# Altium schematic symbol library RF_Filter.SchLib: 200 symbols (part 2 of 2)
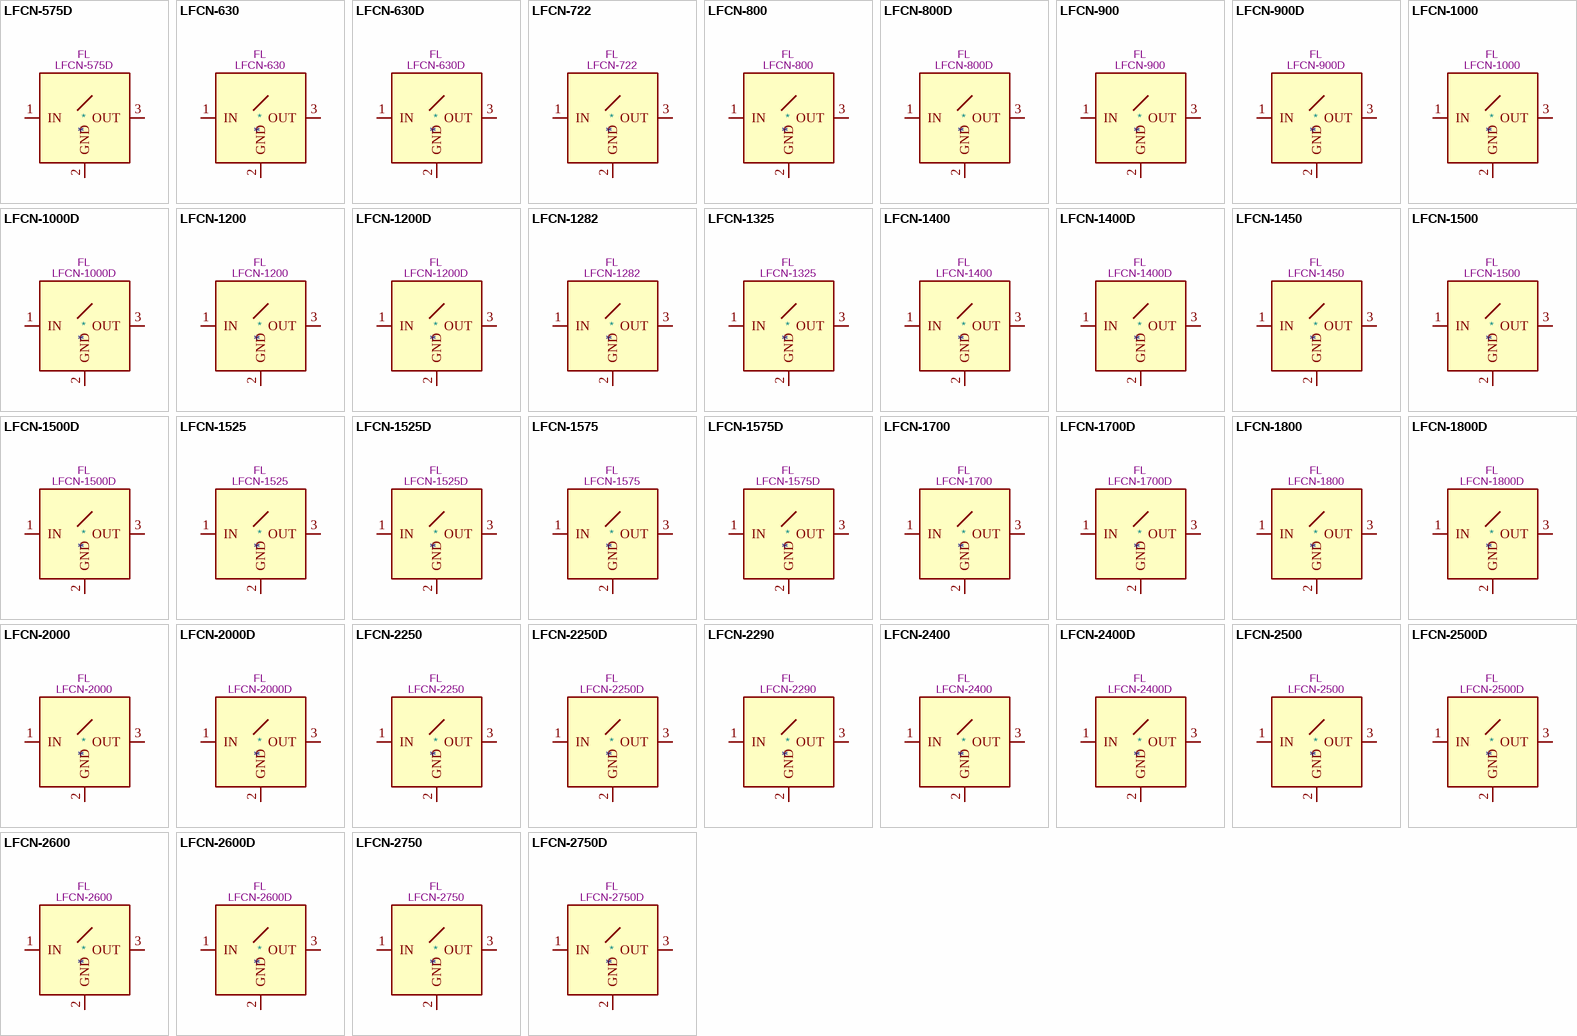
[diagram p5: symbols LFCN-575D to LFCN-2750D]

## LFCN-1325
designator *  value LFCN-1325  Reference: FL
ki_keywords: Mini-Circuits low pass filter; ki_description: 1325MHz 50 Ohm Passive Low Pass Filter, FV1206; ki_fp_filters: Filter*Mini?Circuits*FV1206*; Footprint: Filter:Filter_Mini-Circuits_FV1206; Datasheet: https://www.minicircuits.com/pdfs/LFCN-1325+.pdf
pins: 1 IN, 2 GND, 3 OUT, 4 GND hidden

## LFCN-1400
designator *  value LFCN-1400  Reference: FL
ki_keywords: Mini-Circuits low pass filter; ki_description: 1400MHz 50 Ohm Passive Low Pass Filter, FV1206; ki_fp_filters: Filter*Mini?Circuits*FV1206*; Footprint: Filter:Filter_Mini-Circuits_FV1206; Datasheet: https://www.minicircuits.com/pdfs/LFCN-1400+.pdf
pins: 1 IN, 2 GND, 3 OUT, 4 GND hidden

## LFCN-1400D
designator *  value LFCN-1400D  Reference: FL
ki_keywords: Mini-Circuits low pass filter; ki_description: 1400MHz 50 Ohm Passive Low Pass Filter, DC capable, FV1206; ki_fp_filters: Filter*Mini?Circuits*FV1206*; Footprint: Filter:Filter_Mini-Circuits_FV1206; Datasheet: https://www.minicircuits.com/pdfs/LFCN-1400D+.pdf
pins: 1 IN, 2 GND, 3 OUT, 4 GND hidden

## LFCN-1450
designator *  value LFCN-1450  Reference: FL
ki_keywords: Mini-Circuits low pass filter; ki_description: 1450MHz 50 Ohm Passive Low Pass Filter, FV1206; ki_fp_filters: Filter*Mini?Circuits*FV1206*; Footprint: Filter:Filter_Mini-Circuits_FV1206; Datasheet: https://www.minicircuits.com/pdfs/LFCN-1450+.pdf
pins: 1 IN, 2 GND, 3 OUT, 4 GND hidden

## LFCN-1500
designator *  value LFCN-1500  Reference: FL
ki_keywords: Mini-Circuits low pass filter; ki_description: 1500MHz 50 Ohm Passive Low Pass Filter, FV1206; ki_fp_filters: Filter*Mini?Circuits*FV1206*; Footprint: Filter:Filter_Mini-Circuits_FV1206; Datasheet: https://www.minicircuits.com/pdfs/LFCN-1500+.pdf
pins: 1 IN, 2 GND, 3 OUT, 4 GND hidden

## LFCN-1500D
designator *  value LFCN-1500D  Reference: FL
ki_keywords: Mini-Circuits low pass filter; ki_description: 1500MHz 50 Ohm Passive Low Pass Filter, DC capable, FV1206; ki_fp_filters: Filter*Mini?Circuits*FV1206*; Footprint: Filter:Filter_Mini-Circuits_FV1206; Datasheet: https://www.minicircuits.com/pdfs/LFCN-1500D+.pdf
pins: 1 IN, 2 GND, 3 OUT, 4 GND hidden

## LFCN-1525
designator *  value LFCN-1525  Reference: FL
ki_keywords: Mini-Circuits low pass filter; ki_description: 1525MHz 50 Ohm Passive Low Pass Filter, FV1206; ki_fp_filters: Filter*Mini?Circuits*FV1206*; Footprint: Filter:Filter_Mini-Circuits_FV1206; Datasheet: https://www.minicircuits.com/pdfs/LFCN-1525+.pdf
pins: 1 IN, 2 GND, 3 OUT, 4 GND hidden

## LFCN-1525D
designator *  value LFCN-1525D  Reference: FL
ki_keywords: Mini-Circuits low pass filter; ki_description: 1525MHz 50 Ohm Passive Low Pass Filter, DC capable, FV1206; ki_fp_filters: Filter*Mini?Circuits*FV1206*; Footprint: Filter:Filter_Mini-Circuits_FV1206; Datasheet: https://www.minicircuits.com/pdfs/LFCN-1525D+.pdf
pins: 1 IN, 2 GND, 3 OUT, 4 GND hidden

## LFCN-1575
designator *  value LFCN-1575  Reference: FL
ki_keywords: Mini-Circuits low pass filter; ki_description: 1575MHz 50 Ohm Passive Low Pass Filter, FV1206; ki_fp_filters: Filter*Mini?Circuits*FV1206*; Footprint: Filter:Filter_Mini-Circuits_FV1206; Datasheet: https://www.minicircuits.com/pdfs/LFCN-1575+.pdf
pins: 1 IN, 2 GND, 3 OUT, 4 GND hidden

## LFCN-1575D
designator *  value LFCN-1575D  Reference: FL
ki_keywords: Mini-Circuits low pass filter; ki_description: 1575MHz 50 Ohm Passive Low Pass Filter, DC capable, FV1206; ki_fp_filters: Filter*Mini?Circuits*FV1206*; Footprint: Filter:Filter_Mini-Circuits_FV1206; Datasheet: https://www.minicircuits.com/pdfs/LFCN-1575D+.pdf
pins: 1 IN, 2 GND, 3 OUT, 4 GND hidden

## LFCN-1700
designator *  value LFCN-1700  Reference: FL
ki_keywords: Mini-Circuits low pass filter; ki_description: 1700MHz 50 Ohm Passive Low Pass Filter, FV1206; ki_fp_filters: Filter*Mini?Circuits*FV1206*; Footprint: Filter:Filter_Mini-Circuits_FV1206; Datasheet: https://www.minicircuits.com/pdfs/LFCN-1700+.pdf
pins: 1 IN, 2 GND, 3 OUT, 4 GND hidden

## LFCN-1700D
designator *  value LFCN-1700D  Reference: FL
ki_keywords: Mini-Circuits low pass filter; ki_description: 1700MHz 50 Ohm Passive Low Pass Filter, DC capable, FV1206; ki_fp_filters: Filter*Mini?Circuits*FV1206*; Footprint: Filter:Filter_Mini-Circuits_FV1206; Datasheet: https://www.minicircuits.com/pdfs/LFCN-1700D+.pdf
pins: 1 IN, 2 GND, 3 OUT, 4 GND hidden

## LFCN-1800
designator *  value LFCN-1800  Reference: FL
ki_keywords: Mini-Circuits low pass filter; ki_description: 1800MHz 50 Ohm Passive Low Pass Filter, FV1206; ki_fp_filters: Filter*Mini?Circuits*FV1206*; Footprint: Filter:Filter_Mini-Circuits_FV1206; Datasheet: https://www.minicircuits.com/pdfs/LFCN-1800+.pdf
pins: 1 IN, 2 GND, 3 OUT, 4 GND hidden

## LFCN-1800D
designator *  value LFCN-1800D  Reference: FL
ki_keywords: Mini-Circuits low pass filter; ki_description: 1800MHz 50 Ohm Passive Low Pass Filter, DC capable, FV1206; ki_fp_filters: Filter*Mini?Circuits*FV1206*; Footprint: Filter:Filter_Mini-Circuits_FV1206; Datasheet: https://www.minicircuits.com/pdfs/LFCN-1800D+.pdf
pins: 1 IN, 2 GND, 3 OUT, 4 GND hidden

## LFCN-2000
designator *  value LFCN-2000  Reference: FL
ki_keywords: Mini-Circuits low pass filter; ki_description: 2000MHz 50 Ohm Passive Low Pass Filter, FV1206; ki_fp_filters: Filter*Mini?Circuits*FV1206*; Footprint: Filter:Filter_Mini-Circuits_FV1206; Datasheet: https://www.minicircuits.com/pdfs/LFCN-2000+.pdf
pins: 1 IN, 2 GND, 3 OUT, 4 GND hidden

## LFCN-2000D
designator *  value LFCN-2000D  Reference: FL
ki_keywords: Mini-Circuits low pass filter; ki_description: 2000MHz 50 Ohm Passive Low Pass Filter, DC capable, FV1206; ki_fp_filters: Filter*Mini?Circuits*FV1206*; Footprint: Filter:Filter_Mini-Circuits_FV1206; Datasheet: https://www.minicircuits.com/pdfs/LFCN-2000D+.pdf
pins: 1 IN, 2 GND, 3 OUT, 4 GND hidden

## LFCN-2250
designator *  value LFCN-2250  Reference: FL
ki_keywords: Mini-Circuits low pass filter; ki_description: 2200MHz 50 Ohm Passive Low Pass Filter, FV1206; ki_fp_filters: Filter*Mini?Circuits*FV1206*; Footprint: Filter:Filter_Mini-Circuits_FV1206; Datasheet: https://www.minicircuits.com/pdfs/LFCN-2250+.pdf
pins: 1 IN, 2 GND, 3 OUT, 4 GND hidden

## LFCN-2250D
designator *  value LFCN-2250D  Reference: FL
ki_keywords: Mini-Circuits low pass filter; ki_description: 2250MHz 50 Ohm Passive Low Pass Filter, DC capable, FV1206; ki_fp_filters: Filter*Mini?Circuits*FV1206*; Footprint: Filter:Filter_Mini-Circuits_FV1206; Datasheet: https://www.minicircuits.com/pdfs/LFCN-2250D+.pdf
pins: 1 IN, 2 GND, 3 OUT, 4 GND hidden

## LFCN-2290
designator *  value LFCN-2290  Reference: FL
ki_keywords: Mini-Circuits low pass filter; ki_description: 2290MHz 50 Ohm Passive Low Pass Filter, FV1206; ki_fp_filters: Filter*Mini?Circuits*FV1206*; Footprint: Filter:Filter_Mini-Circuits_FV1206; Datasheet: https://www.minicircuits.com/pdfs/LFCN-2290+.pdf
pins: 1 IN, 2 GND, 3 OUT, 4 GND hidden

## LFCN-2400
designator *  value LFCN-2400  Reference: FL
ki_keywords: Mini-Circuits low pass filter; ki_description: 2400MHz 50 Ohm Passive Low Pass Filter, FV1206; ki_fp_filters: Filter*Mini?Circuits*FV1206*; Footprint: Filter:Filter_Mini-Circuits_FV1206; Datasheet: https://www.minicircuits.com/pdfs/LFCN-2400+.pdf
pins: 1 IN, 2 GND, 3 OUT, 4 GND hidden

## LFCN-2400D
designator *  value LFCN-2400D  Reference: FL
ki_keywords: Mini-Circuits low pass filter; ki_description: 2400MHz 50 Ohm Passive Low Pass Filter, DC capable, FV1206; ki_fp_filters: Filter*Mini?Circuits*FV1206*; Footprint: Filter:Filter_Mini-Circuits_FV1206; Datasheet: https://www.minicircuits.com/pdfs/LFCN-2400D+.pdf
pins: 1 IN, 2 GND, 3 OUT, 4 GND hidden

## LFCN-2500
designator *  value LFCN-2500  Reference: FL
ki_keywords: Mini-Circuits low pass filter; ki_description: 2500MHz 50 Ohm Passive Low Pass Filter, FV1206; ki_fp_filters: Filter*Mini?Circuits*FV1206*; Footprint: Filter:Filter_Mini-Circuits_FV1206; Datasheet: https://www.minicircuits.com/pdfs/LFCN-2500+.pdf
pins: 1 IN, 2 GND, 3 OUT, 4 GND hidden

## LFCN-2500D
designator *  value LFCN-2500D  Reference: FL
ki_keywords: Mini-Circuits low pass filter; ki_description: 2500MHz 50 Ohm Passive Low Pass Filter, DC capable, FV1206; ki_fp_filters: Filter*Mini?Circuits*FV1206*; Footprint: Filter:Filter_Mini-Circuits_FV1206; Datasheet: https://www.minicircuits.com/pdfs/LFCN-2500D+.pdf
pins: 1 IN, 2 GND, 3 OUT, 4 GND hidden

## LFCN-2600
designator *  value LFCN-2600  Reference: FL
ki_keywords: Mini-Circuits low pass filter; ki_description: 2600MHz 50 Ohm Passive Low Pass Filter, FV1206; ki_fp_filters: Filter*Mini?Circuits*FV1206*; Footprint: Filter:Filter_Mini-Circuits_FV1206; Datasheet: https://www.minicircuits.com/pdfs/LFCN-2600+.pdf
pins: 1 IN, 2 GND, 3 OUT, 4 GND hidden

## LFCN-2600D
designator *  value LFCN-2600D  Reference: FL
ki_keywords: Mini-Circuits low pass filter; ki_description: 2600MHz 50 Ohm Passive Low Pass Filter, DC capable, FV1206; ki_fp_filters: Filter*Mini?Circuits*FV1206*; Footprint: Filter:Filter_Mini-Circuits_FV1206; Datasheet: https://www.minicircuits.com/pdfs/LFCN-2600D+.pdf
pins: 1 IN, 2 GND, 3 OUT, 4 GND hidden

## LFCN-2750
designator *  value LFCN-2750  Reference: FL
ki_keywords: Mini-Circuits low pass filter; ki_description: 2750MHz 50 Ohm Passive Low Pass Filter, FV1206; ki_fp_filters: Filter*Mini?Circuits*FV1206*; Footprint: Filter:Filter_Mini-Circuits_FV1206; Datasheet: https://www.minicircuits.com/pdfs/LFCN-2750+.pdf
pins: 1 IN, 2 GND, 3 OUT, 4 GND hidden

## LFCN-2750D
designator *  value LFCN-2750D  Reference: FL
ki_keywords: Mini-Circuits low pass filter; ki_description: 2750MHz 50 Ohm Passive Low Pass Filter, DC capable, FV1206; ki_fp_filters: Filter*Mini?Circuits*FV1206*; Footprint: Filter:Filter_Mini-Circuits_FV1206; Datasheet: https://www.minicircuits.com/pdfs/LFCN-2750D+.pdf
pins: 1 IN, 2 GND, 3 OUT, 4 GND hidden

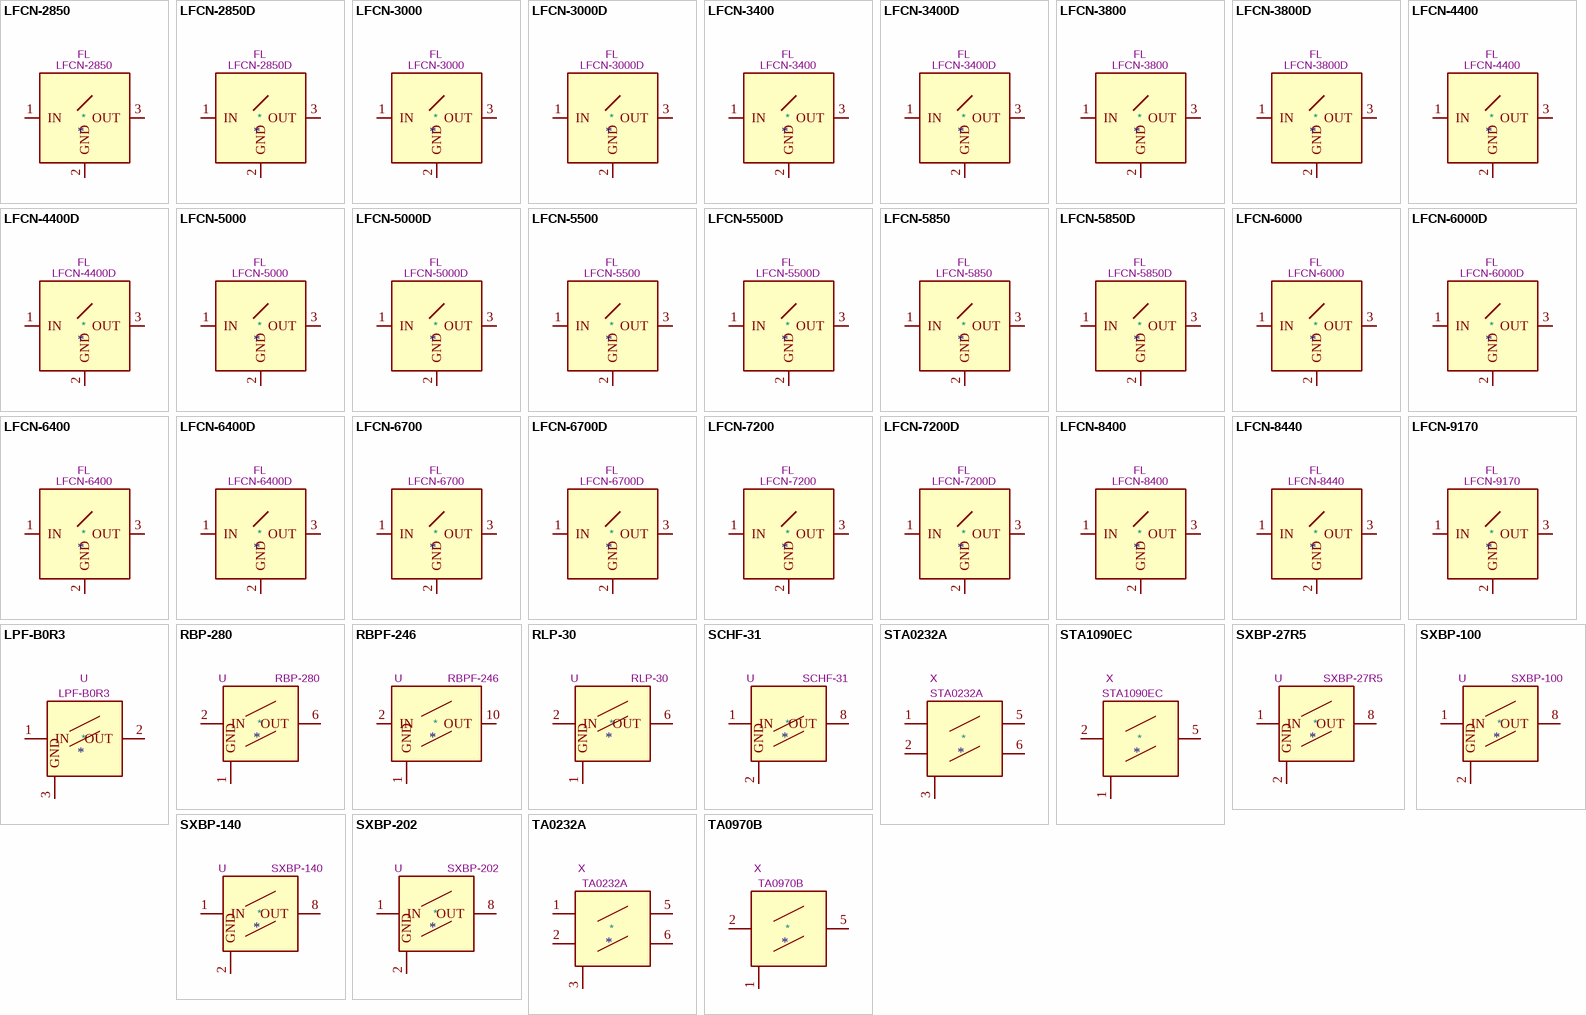
[diagram p4: symbols LFCN-2850 to TA0970B]

## LFCN-2850
designator *  value LFCN-2850  Reference: FL
ki_keywords: Mini-Circuits low pass filter; ki_description: 2800MHz 50 Ohm Passive Low Pass Filter, FV1206; ki_fp_filters: Filter*Mini?Circuits*FV1206*; Footprint: Filter:Filter_Mini-Circuits_FV1206; Datasheet: https://www.minicircuits.com/pdfs/LFCN-2850+.pdf
pins: 1 IN, 2 GND, 3 OUT, 4 GND hidden

## LFCN-2850D
designator *  value LFCN-2850D  Reference: FL
ki_keywords: Mini-Circuits low pass filter; ki_description: 2800MHz 50 Ohm Passive Low Pass Filter, DC capable, FV1206; ki_fp_filters: Filter*Mini?Circuits*FV1206*; Footprint: Filter:Filter_Mini-Circuits_FV1206; Datasheet: https://www.minicircuits.com/pdfs/LFCN-2850D+.pdf
pins: 1 IN, 2 GND, 3 OUT, 4 GND hidden

## LFCN-3000
designator *  value LFCN-3000  Reference: FL
ki_keywords: Mini-Circuits low pass filter; ki_description: 3000MHz 50 Ohm Passive Low Pass Filter, FV1206; ki_fp_filters: Filter*Mini?Circuits*FV1206*; Footprint: Filter:Filter_Mini-Circuits_FV1206; Datasheet: https://www.minicircuits.com/pdfs/LFCN-3000+.pdf
pins: 1 IN, 2 GND, 3 OUT, 4 GND hidden

## LFCN-3000D
designator *  value LFCN-3000D  Reference: FL
ki_keywords: Mini-Circuits low pass filter; ki_description: 3000MHz 50 Ohm Passive Low Pass Filter, DC capable, FV1206; ki_fp_filters: Filter*Mini?Circuits*FV1206*; Footprint: Filter:Filter_Mini-Circuits_FV1206; Datasheet: https://www.minicircuits.com/pdfs/LFCN-3000D+.pdf
pins: 1 IN, 2 GND, 3 OUT, 4 GND hidden

## LFCN-3400
designator *  value LFCN-3400  Reference: FL
ki_keywords: Mini-Circuits low pass filter; ki_description: 3400MHz 50 Ohm Passive Low Pass Filter, FV1206; ki_fp_filters: Filter*Mini?Circuits*FV1206*; Footprint: Filter:Filter_Mini-Circuits_FV1206; Datasheet: https://www.minicircuits.com/pdfs/LFCN-3400+.pdf
pins: 1 IN, 2 GND, 3 OUT, 4 GND hidden

## LFCN-3400D
designator *  value LFCN-3400D  Reference: FL
ki_keywords: Mini-Circuits low pass filter; ki_description: 3400MHz 50 Ohm Passive Low Pass Filter, DC capable, FV1206; ki_fp_filters: Filter*Mini?Circuits*FV1206*; Footprint: Filter:Filter_Mini-Circuits_FV1206; Datasheet: https://www.minicircuits.com/pdfs/LFCN-3400D+.pdf
pins: 1 IN, 2 GND, 3 OUT, 4 GND hidden

## LFCN-3800
designator *  value LFCN-3800  Reference: FL
ki_keywords: Mini-Circuits low pass filter; ki_description: 3900MHz 50 Ohm Passive Low Pass Filter, FV1206; ki_fp_filters: Filter*Mini?Circuits*FV1206*; Footprint: Filter:Filter_Mini-Circuits_FV1206; Datasheet: https://www.minicircuits.com/pdfs/LFCN-3800+.pdf
pins: 1 IN, 2 GND, 3 OUT, 4 GND hidden

## LFCN-3800D
designator *  value LFCN-3800D  Reference: FL
ki_keywords: Mini-Circuits low pass filter; ki_description: 3900MHz 50 Ohm Passive Low Pass Filter, DC capable, FV1206; ki_fp_filters: Filter*Mini?Circuits*FV1206*; Footprint: Filter:Filter_Mini-Circuits_FV1206; Datasheet: https://www.minicircuits.com/pdfs/LFCN-3800D+.pdf
pins: 1 IN, 2 GND, 3 OUT, 4 GND hidden

## LFCN-4400
designator *  value LFCN-4400  Reference: FL
ki_keywords: Mini-Circuits low pass filter; ki_description: 4400MHz 50 Ohm Passive Low Pass Filter, FV1206; ki_fp_filters: Filter*Mini?Circuits*FV1206*; Footprint: Filter:Filter_Mini-Circuits_FV1206; Datasheet: https://www.minicircuits.com/pdfs/LFCN-4400+.pdf
pins: 1 IN, 2 GND, 3 OUT, 4 GND hidden

## LFCN-4400D
designator *  value LFCN-4400D  Reference: FL
ki_keywords: Mini-Circuits low pass filter; ki_description: 4400MHz 50 Ohm Passive Low Pass Filter, DC capable, FV1206; ki_fp_filters: Filter*Mini?Circuits*FV1206*; Footprint: Filter:Filter_Mini-Circuits_FV1206; Datasheet: https://www.minicircuits.com/pdfs/LFCN-4400D+.pdf
pins: 1 IN, 2 GND, 3 OUT, 4 GND hidden

## LFCN-5000
designator *  value LFCN-5000  Reference: FL
ki_keywords: Mini-Circuits low pass filter; ki_description: 5000MHz 50 Ohm Passive Low Pass Filter, FV1206; ki_fp_filters: Filter*Mini?Circuits*FV1206*; Footprint: Filter:Filter_Mini-Circuits_FV1206; Datasheet: https://www.minicircuits.com/pdfs/LFCN-5000+.pdf
pins: 1 IN, 2 GND, 3 OUT, 4 GND hidden

## LFCN-5000D
designator *  value LFCN-5000D  Reference: FL
ki_keywords: Mini-Circuits low pass filter; ki_description: 5000MHz 50 Ohm Passive Low Pass Filter, DC capable, FV1206; ki_fp_filters: Filter*Mini?Circuits*FV1206*; Footprint: Filter:Filter_Mini-Circuits_FV1206; Datasheet: https://www.minicircuits.com/pdfs/LFCN-5000D+.pdf
pins: 1 IN, 2 GND, 3 OUT, 4 GND hidden

## LFCN-5500
designator *  value LFCN-5500  Reference: FL
ki_keywords: Mini-Circuits low pass filter; ki_description: 5500MHz 50 Ohm Passive Low Pass Filter, FV1206; ki_fp_filters: Filter*Mini?Circuits*FV1206*; Footprint: Filter:Filter_Mini-Circuits_FV1206; Datasheet: https://www.minicircuits.com/pdfs/LFCN-5500+.pdf
pins: 1 IN, 2 GND, 3 OUT, 4 GND hidden

## LFCN-5500D
designator *  value LFCN-5500D  Reference: FL
ki_keywords: Mini-Circuits low pass filter; ki_description: 5500MHz 50 Ohm Passive Low Pass Filter, DC capable, FV1206; ki_fp_filters: Filter*Mini?Circuits*FV1206*; Footprint: Filter:Filter_Mini-Circuits_FV1206; Datasheet: https://www.minicircuits.com/pdfs/LFCN-5500D+.pdf
pins: 1 IN, 2 GND, 3 OUT, 4 GND hidden

## LFCN-5850
designator *  value LFCN-5850  Reference: FL
ki_keywords: Mini-Circuits low pass filter; ki_description: 5850MHz 50 Ohm Passive Low Pass Filter, FV1206; ki_fp_filters: Filter*Mini?Circuits*FV1206*; Footprint: Filter:Filter_Mini-Circuits_FV1206; Datasheet: https://www.minicircuits.com/pdfs/LFCN-5850+.pdf
pins: 1 IN, 2 GND, 3 OUT, 4 GND hidden

## LFCN-5850D
designator *  value LFCN-5850D  Reference: FL
ki_keywords: Mini-Circuits low pass filter; ki_description: 5850MHz 50 Ohm Passive Low Pass Filter, DC capable, FV1206; ki_fp_filters: Filter*Mini?Circuits*FV1206*; Footprint: Filter:Filter_Mini-Circuits_FV1206; Datasheet: https://www.minicircuits.com/pdfs/LFCN-5850D+.pdf
pins: 1 IN, 2 GND, 3 OUT, 4 GND hidden

## LFCN-6000
designator *  value LFCN-6000  Reference: FL
ki_keywords: Mini-Circuits low pass filter; ki_description: 6000MHz 50 Ohm Passive Low Pass Filter, FV1206; ki_fp_filters: Filter*Mini?Circuits*FV1206*; Footprint: Filter:Filter_Mini-Circuits_FV1206; Datasheet: https://www.minicircuits.com/pdfs/LFCN-6000+.pdf
pins: 1 IN, 2 GND, 3 OUT, 4 GND hidden

## LFCN-6000D
designator *  value LFCN-6000D  Reference: FL
ki_keywords: Mini-Circuits low pass filter; ki_description: 6000MHz 50 Ohm Passive Low Pass Filter, DC capable, FV1206; ki_fp_filters: Filter*Mini?Circuits*FV1206*; Footprint: Filter:Filter_Mini-Circuits_FV1206; Datasheet: https://www.minicircuits.com/pdfs/LFCN-6000D+.pdf
pins: 1 IN, 2 GND, 3 OUT, 4 GND hidden

## LFCN-6400
designator *  value LFCN-6400  Reference: FL
ki_keywords: Mini-Circuits low pass filter; ki_description: 6400MHz 50 Ohm Passive Low Pass Filter, FV1206; ki_fp_filters: Filter*Mini?Circuits*FV1206*; Footprint: Filter:Filter_Mini-Circuits_FV1206; Datasheet: https://www.minicircuits.com/pdfs/LFCN-6400+.pdf
pins: 1 IN, 2 GND, 3 OUT, 4 GND hidden

## LFCN-6400D
designator *  value LFCN-6400D  Reference: FL
ki_keywords: Mini-Circuits low pass filter; ki_description: 6400MHz 50 Ohm Passive Low Pass Filter, DC capable, FV1206; ki_fp_filters: Filter*Mini?Circuits*FV1206*; Footprint: Filter:Filter_Mini-Circuits_FV1206; Datasheet: https://www.minicircuits.com/pdfs/LFCN-6400D+.pdf
pins: 1 IN, 2 GND, 3 OUT, 4 GND hidden

## LFCN-6700
designator *  value LFCN-6700  Reference: FL
ki_keywords: Mini-Circuits low pass filter; ki_description: 6700MHz 50 Ohm Passive Low Pass Filter, FV1206; ki_fp_filters: Filter*Mini?Circuits*FV1206*; Footprint: Filter:Filter_Mini-Circuits_FV1206; Datasheet: https://www.minicircuits.com/pdfs/LFCN-6700+.pdf
pins: 1 IN, 2 GND, 3 OUT, 4 GND hidden

## LFCN-6700D
designator *  value LFCN-6700D  Reference: FL
ki_keywords: Mini-Circuits low pass filter; ki_description: 6700MHz 50 Ohm Passive Low Pass Filter, DC cabable, FV1206; ki_fp_filters: Filter*Mini?Circuits*FV1206*; Footprint: Filter:Filter_Mini-Circuits_FV1206; Datasheet: https://www.minicircuits.com/pdfs/LFCN-6700D+.pdf
pins: 1 IN, 2 GND, 3 OUT, 4 GND hidden

## LFCN-7200
designator *  value LFCN-7200  Reference: FL
ki_keywords: Mini-Circuits low pass filter; ki_description: 7200MHz 50 Ohm Passive Low Pass Filter, FV1206; ki_fp_filters: Filter*Mini?Circuits*FV1206*; Footprint: Filter:Filter_Mini-Circuits_FV1206; Datasheet: https://www.minicircuits.com/pdfs/LFCN-7200+.pdf
pins: 1 IN, 2 GND, 3 OUT, 4 GND hidden

## LFCN-7200D
designator *  value LFCN-7200D  Reference: FL
ki_keywords: Mini-Circuits low pass filter; ki_description: 7200MHz 50 Ohm Passive Low Pass Filter, DC cabable, FV1206; ki_fp_filters: Filter*Mini?Circuits*FV1206*; Footprint: Filter:Filter_Mini-Circuits_FV1206; Datasheet: https://www.minicircuits.com/pdfs/LFCN-7200D+.pdf
pins: 1 IN, 2 GND, 3 OUT, 4 GND hidden

## LFCN-8400
designator *  value LFCN-8400  Reference: FL
ki_keywords: Mini-Circuits low pass filter; ki_description: 8400MHz 50 Ohm Passive Low Pass Filter, FV1206-4; ki_fp_filters: Filter*Mini?Circuits*FV1206?4*; Footprint: Filter:Filter_Mini-Circuits_FV1206-4; Datasheet: https://www.minicircuits.com/pdfs/LFCN-8400+.pdf
pins: 1 IN, 2 GND, 3 OUT, 4 GND hidden

## LFCN-8440
designator *  value LFCN-8440  Reference: FL
ki_keywords: Mini-Circuits low pass filter; ki_description: 8440MHz 50 Ohm Passive Low Pass Filter, FV1206-4; ki_fp_filters: Filter*Mini?Circuits*FV1206?4*; Footprint: Filter:Filter_Mini-Circuits_FV1206-4; Datasheet: https://www.minicircuits.com/pdfs/LFCN-8440+.pdf
pins: 1 IN, 2 GND, 3 OUT, 4 GND hidden

## LFCN-9170
designator *  value LFCN-9170  Reference: FL
ki_keywords: Mini-Circuits low pass filter; ki_description: 9170MHz 50 Ohm Passive Low Pass Filter, FV1206-4; ki_fp_filters: Filter*Mini?Circuits*FV1206?4*; Footprint: Filter:Filter_Mini-Circuits_FV1206-4; Datasheet: https://www.minicircuits.com/pdfs/LFCN-9170+.pdf
pins: 1 IN, 2 GND, 3 OUT, 4 GND hidden

## LPF-B0R3
designator *  value LPF-B0R3  Reference: U
ki_keywords: low pass filter; ki_description: Low Pass Filter, DC to 0.3 MHz, 50 Ohm, Mini-Circuits HZ1198; ki_fp_filters: Mini?Circuits*HZ1198*; Footprint: RF_Mini-Circuits:Mini-Circuits_HZ1198_LandPatternPL-247; Datasheet: https://www.minicircuits.com/pdfs/LPF-B0R3+.pdf
pins: 1 IN, 2 OUT, 3 GND, 4 GND hidden, 5 GND hidden, 6 GND hidden

## RBP-280
designator *  value RBP-280  Reference: U
ki_keywords: bandpass filter rf; ki_description: Bandpass Filter, 260 to 310 MHz, 50 Ohm, Mini-Circuits GP731; ki_fp_filters: Mini?Circuits*GP731*; Footprint: RF_Mini-Circuits:Mini-Circuits_GP731_LandPatternPL-176; Datasheet: https://www.minicircuits.com/pdfs/RBP-280+.pdf
pins: 1 GND, 2 IN, 3 GND hidden, 4 GND hidden, 5 GND hidden, 6 OUT, 7 GND hidden, 8 GND hidden

## RBPF-246
designator *  value RBPF-246  Reference: U
ki_keywords: Bandpass Filter; ki_description: Bandpass Filter, 236 to 265 MHz, 50 Ohm, Mini-Circuits CK605; ki_fp_filters: Mini?Circuits*CK605*; Footprint: RF_Mini-Circuits:Mini-Circuits_CK605_LandPatternPL-012; Datasheet: https://www.minicircuits.com/pdfs/RBPF-246+.pdf
pins: 1 GND, 2 IN, 3 GND hidden, 4 GND hidden, 5 GND hidden, 6 GND hidden, 7 GND hidden, 8 GND hidden, 9 GND hidden, 10 OUT, 11 GND hidden, 12 GND hidden, 13 GND hidden, 14 NC hidden, 15 GND hidden, 16 GND hidden

## RLP-30
designator *  value RLP-30  Reference: U
ki_keywords: Low Pass Filter; ki_description: Low Pass Filter, DC to 30 MHz, 50 Ohm, Mini-Circuits GP1212; ki_fp_filters: Mini?Circuits*GP1212*; Footprint: RF_Mini-Circuits:Mini-Circuits_GP1212_LandPatternPL-176; Datasheet: https://www.minicircuits.com/pdfs/RLP-30+.pdf
pins: 1 GND, 2 IN, 3 GND hidden, 4 GND hidden, 5 GND hidden, 6 OUT, 7 GND hidden, 8 GND hidden

## SCHF-31
designator *  value SCHF-31  Reference: U
ki_keywords: highpass filter rf; ki_description: High Pass Filter, 31 to 1500 MHz, 50 Ohm, Mini-Circuits YY161; ki_fp_filters: Mini?Circuits*YY161*; Footprint: RF_Mini-Circuits:Mini-Circuits_YY161_LandPatternPL-049; Datasheet: https://www.minicircuits.com/pdfs/SCHF-31+.pdf
pins: 1 IN, 2 GND, 3 GND hidden, 4 GND hidden, 5 GND hidden, 6 GND hidden, 7 GND hidden, 8 OUT

## STA0232A
designator *  value STA0232A  Reference: X
ki_keywords: SAW Filter 1090 bandpass; ki_description: Bandpass Filter, 1090MHz, SAW filter 8-pin; ki_fp_filters: Filter*SAW*3.8x3.8mm*; Footprint: Filter:Filter_SAW-8_3.8x3.8mm; Datasheet: https://www.golledge.com/media/1831/ma05497.pdf
pins: 1 IN_1, 2 IN_2, 3 GND, 4 GND hidden, 5 OUT_1, 6 OUT_2, 7 GND hidden, 8 GND hidden

## STA1090EC
designator *  value STA1090EC  Reference: X
ki_keywords: SAW Filter 1090 bandpass; ki_description: Bandpass Filter, 1090MHz, SAW filter 6-pin; ki_fp_filters: Filter*SAW*3.8x3.8mm*; Footprint: Filter:Filter_SAW-6_3.8x3.8mm; Datasheet: https://www.golledge.com/media/3785/mp08167.pdf
pins: 1 GND, 2 IN, 3 GND hidden, 4 GND hidden, 5 OUT, 6 GND hidden

## SXBP-27R5
designator *  value SXBP-27R5  Reference: U
ki_keywords: bandpass filter; ki_description: Bandpass Filter, 24 to 31 MHz, 50 Ohm, Mini-Circuits HF1139; ki_fp_filters: Mini?Circuits*HF1139*; Footprint: RF_Mini-Circuits:Mini-Circuits_HF1139_LandPatternPL-230; Datasheet: https://www.minicircuits.com/pdfs/SXBP-27R5+.pdf
pins: 1 IN, 2 GND, 3 GND hidden, 4 GND hidden, 5 GND hidden, 6 GND hidden, 7 GND hidden, 8 OUT

## SXBP-100
designator *  value SXBP-100  Reference: U
ki_keywords: bandpass filter; ki_description: Bandpass Filter, 87 to 117 MHz, 50 Ohm, Mini-Circuits HF1139; ki_fp_filters: Mini?Circuits*HF1139*; Footprint: RF_Mini-Circuits:Mini-Circuits_HF1139_LandPatternPL-230; Datasheet: https://www.minicircuits.com/pdfs/SXBP-100+.pdf
pins: 1 IN, 2 GND, 3 GND hidden, 4 GND hidden, 5 GND hidden, 6 GND hidden, 7 GND hidden, 8 OUT

## SXBP-140
designator *  value SXBP-140  Reference: U
ki_keywords: Mini-Circuits Band-Pass Filter; ki_description: Bandpass Filter, 130 to 150 MHz, 50 Ohm, Mini-Circuits HF1139; ki_fp_filters: Mini?Circuits*HF1139*; Footprint: RF_Mini-Circuits:Mini-Circuits_HF1139_LandPatternPL-230; Datasheet: https://www.minicircuits.com/pdfs/SXBP-140+.pdf
pins: 1 IN, 2 GND, 3 GND hidden, 4 GND hidden, 5 GND hidden, 6 GND hidden, 7 GND hidden, 8 OUT

## SXBP-202
designator *  value SXBP-202  Reference: U
ki_keywords: bandpass filter; ki_description: Bandpass Filter, 198 to 206 MHz, 50 Ohm, Mini-Circuits HF1139; ki_fp_filters: Mini?Circuits*HF1139*; Footprint: RF_Mini-Circuits:Mini-Circuits_HF1139_LandPatternPL-230; Datasheet: https://www.minicircuits.com/pdfs/SXBP-202+.pdf
pins: 1 IN, 2 GND, 3 GND hidden, 4 GND hidden, 5 GND hidden, 6 GND hidden, 7 GND hidden, 8 OUT

## TA0232A
designator *  value TA0232A  Reference: X
ki_keywords: SAW Filter 1090 bandpass; ki_description: Bandpass Filter, 1090MHz, SAW filter 8-pin; ki_fp_filters: Filter*SAW*3.8x3.8mm*; Footprint: Filter:Filter_SAW-8_3.8x3.8mm; Datasheet: https://www.golledge.com/media/1831/ma05497.pdf
pins: 1 IN_1, 2 IN_2, 3 GND, 4 GND hidden, 5 OUT_1, 6 OUT_2, 7 GND hidden, 8 GND hidden

## TA0970B
designator *  value TA0970B  Reference: X
ki_keywords: SAW Filter 1090 bandpass MP08167; ki_description: Bandpass Filter, 1090MHz, SAW filter 6-pin; ki_fp_filters: Filter*SAW*3.8x3.8mm*; Footprint: Filter:Filter_SAW-6_3.8x3.8mm; Datasheet: https://www.golledge.com/media/3785/mp08167.pdf
pins: 1 GND, 2 IN, 3 GND hidden, 4 GND hidden, 5 OUT, 6 GND hidden